# EAGLE library part MCU_ARDUINO_PROMICRO (library akita)
Arduino Pro Micro
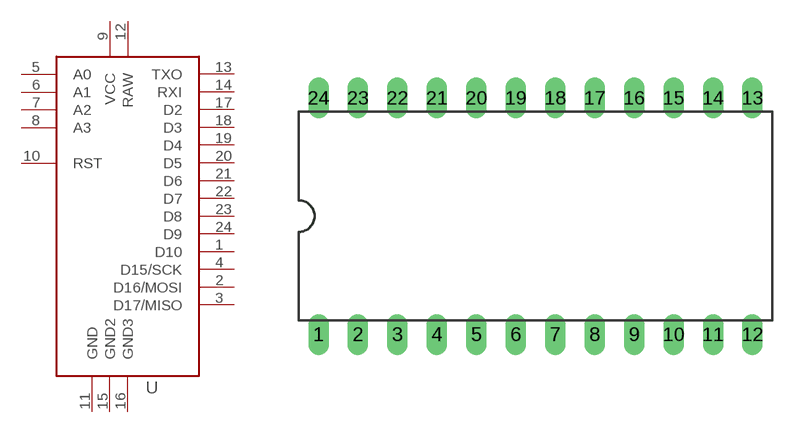
[diagram p201: symbol with the pads of DIP24_600MIL; footprint DIP24_600MIL]

Designator prefix U

## MCU_ARDUINO_PROMICRO  [DIP24_600MIL]
1  D10
2  D16/MOSI
3  D17/MISO
4  D15/SCK
5  A0
6  A1
7  A2
8  A3
9  VCC
10  RST
11  GND
12  RAW
13  TXO
14  RXI
15  GND2
16  GND3
17  D2
18  D3
19  D4
20  D5
21  D6
22  D7
23  D8
24  D9

## Footprint DIP24_600MIL (pad centres in mm)
drill 0.813 long: 1 -13.97,-7.62; 2 -11.43,-7.62; 3 -8.89,-7.62; 4 -6.35,-7.62; 5 -3.81,-7.62; 6 -1.27,-7.62; 7 1.27,-7.62; 8 3.81,-7.62; 9 6.35,-7.62; 10 8.89,-7.62; 11 11.43,-7.62; 12 13.97,-7.62; 13 13.97,7.62; 14 11.43,7.62; 15 8.89,7.62; 16 6.35,7.62; 17 3.81,7.62; 18 1.27,7.62; 19 -1.27,7.62; 20 -3.81,7.62; 21 -6.35,7.62; 22 -8.89,7.62; 23 -11.43,7.62; 24 -13.97,7.62